# EAGLE library part LTC3780 (library PowerProducts)
High Efficiency, Synchronous, 4-Switch Buck-Boost Controller
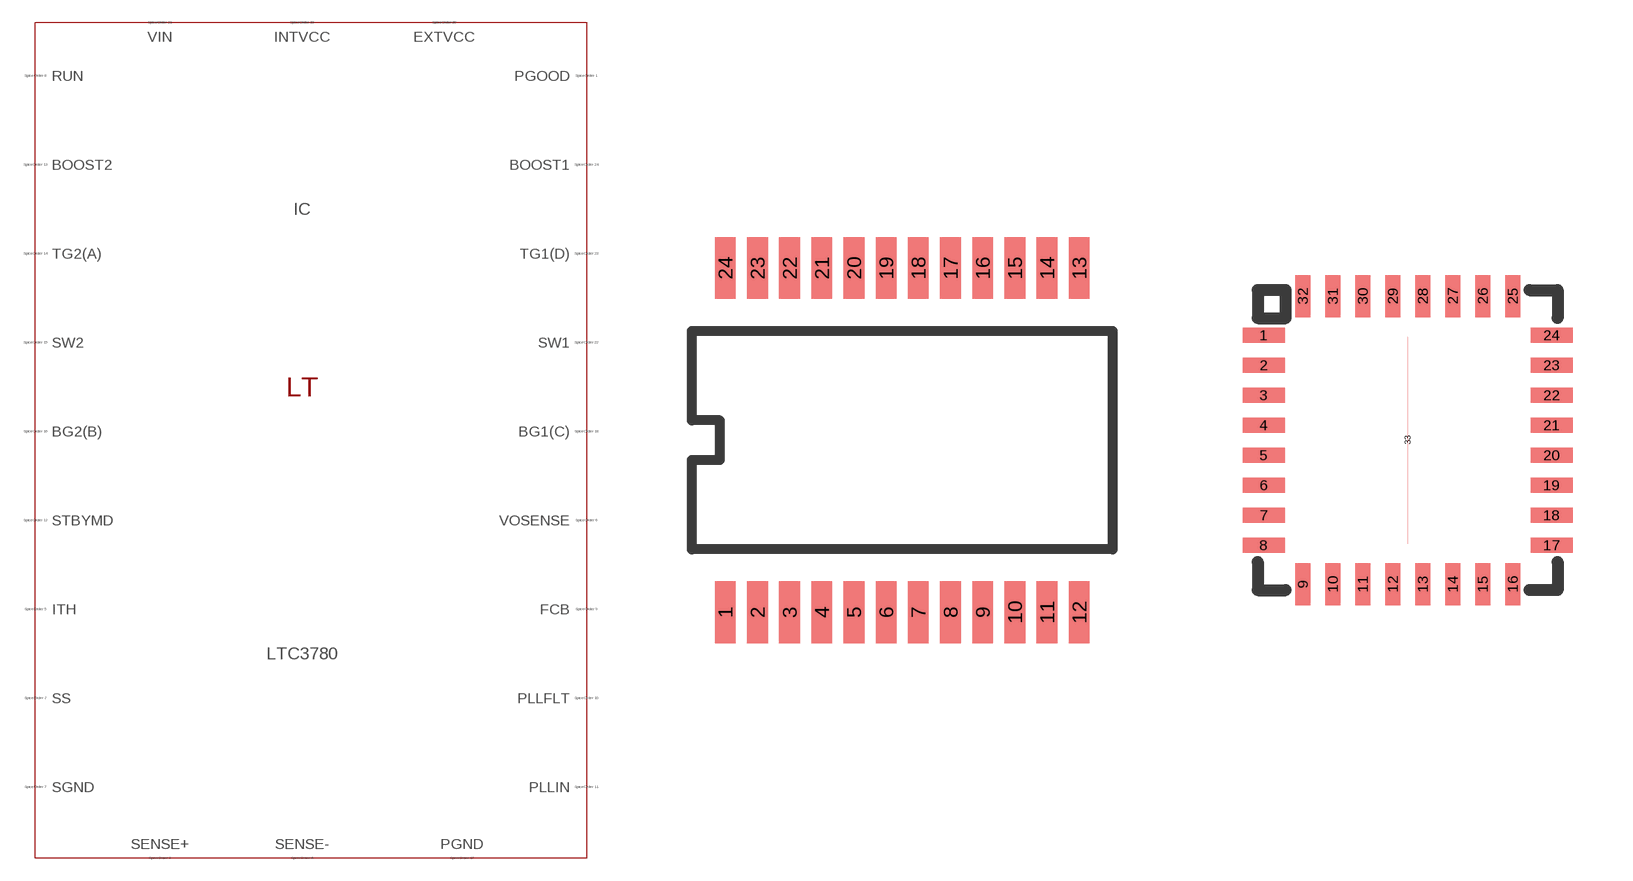
[diagram p324: symbol with the pads of SSOP24(G); footprints SSOP24(G), QFN32(UH)]

Designator prefix IC

## LTC3780 (SPICEMODEL: LTC3780.sub; SPICEPREFIX: X; VALUE2: LTC3780)  [SSOP24(G)]
1  PGOOD  pas
2  SS  pas
3  SENSE+  pas
4  SENSE-  pas
5  ITH  pas
6  VOSENSE  pas
7  SGND  pas
8  RUN  pas
9  FCB  pas
10  PLLFLT  pas
11  PLLIN  pas
12  STBYMD  pas
13  BOOST2  pas
14  TG2(A)  pas
15  SW2  pas
16  BG2(B)  pas
17  PGND  pas
18  BG1(C)  pas
19  INTVCC  pas
20  EXTVCC  pas
21  VIN  pas
22  SW1  pas
23  TG1(D)  pas
24  BOOST1  pas

## LTC3780UH (SPICEMODEL: LTC3780.sub; SPICEPREFIX: X; VALUE2: LTC3780)  [QFN32(UH)]
1  SENSE+  pas
2  SENSE-  pas
3  ITH  pas
4  VOSENSE  pas
5  SGND  pas
6  RUN  pas
7  FCB  pas
8  PLLFLT  pas
10  PLLIN  pas
11  STBYMD  pas
14  BOOST2  pas
15  TG2(A)  pas
17  SW2  pas
18  BG2(B)  pas
19  PGND  pas
20  BG1(C)  pas
21  INTVCC  pas
22  EXTVCC  pas
23  VIN  pas
24  SW1  pas
26  TG1(D)  pas
27  BOOST1  pas
30  PGOOD  pas
31  SS  pas
33  SGND  pas

## Footprint SSOP24(G) (pad centres in mm)
Package generated from: SSOP24(G).asc (!PADS-POWERPCB-V5.0-BASIC! DESIGN DATABASE ASCII FILE 1.0) with :import-pads-powerpcb-v5.ulp Version 1.0.1 at 04.10.2012 14:11:39
smd 0.63 x 1.875: 1 -5.362,-5.213; 2 -4.388,-5.213; 3 -3.413,-5.213; 4 -2.438,-5.213; 5 -1.462,-5.213; 6 -0.487,-5.213; 7 0.487,-5.213; 8 1.462,-5.213; 9 2.438,-5.213; 10 3.413,-5.213; 11 4.388,-5.213; 12 5.362,-5.213; 13 5.362,5.213; 14 4.388,5.213; 15 3.413,5.213; 16 2.438,5.213; 17 1.462,5.213; 18 0.487,5.213; 19 -0.487,5.213; 20 -1.462,5.213; 21 -2.438,5.213; 22 -3.413,5.213; 23 -4.388,5.213; 24 -5.362,5.213

## Footprint QFN32(UH) (pad centres in mm)
Package generated from: QFN32(UH).asc (!PADS-POWERPCB-V5.0-BASIC! DESIGN DATABASE ASCII FILE 1.0) with :import-pads-powerpcb-v5.ulp Version 1.0.1 at 04.10.2012 14:11:25
smd 1.05 x 0.375: 1 -3.6,2.625; 2 -3.6,1.875; 3 -3.6,1.125; 4 -3.6,0.375; 5 -3.6,-0.375; 6 -3.6,-1.125; 7 -3.6,-1.875; 8 -3.6,-2.625; 17 3.6,-2.625; 18 3.6,-1.875; 19 3.6,-1.125; 20 3.6,-0.375; 21 3.6,0.375; 22 3.6,1.125; 23 3.6,1.875; 24 3.6,2.625
smd 0.375 x 1.05: 9 -2.625,-3.6; 10 -1.875,-3.6; 11 -1.125,-3.6; 12 -0.375,-3.6; 13 0.375,-3.6; 14 1.125,-3.6; 15 1.875,-3.6; 16 2.625,-3.6; 25 2.625,3.6; 26 1.875,3.6; 27 1.125,3.6; 28 0.375,3.6; 29 -0.375,3.6; 30 -1.125,3.6; 31 -1.875,3.6; 32 -2.625,3.6
smd 0 x 5.175: 33 0,0